# EAGLE library part 750370042 (library Midcom Inc - EAGLE Lib V2-0)
Package Style: ER9.5 Mounting: SMD Pins: 8 pins Bobbin: 070-2008 Best pinouts for production vary per application. Please contact Wurth Electronics Midcom, Inc. for assistance with your custom design. Website: Wurth Electronics Midcom <http://www.we-online.com/midcom> Contact us Wurth Electronics Midcom, Inc. 121 Airport Dr. Watertown, SD 57201 Phone: (605) 886-4385 Fax: (605) 886-4486 E-Mail: midcom@we-online.com
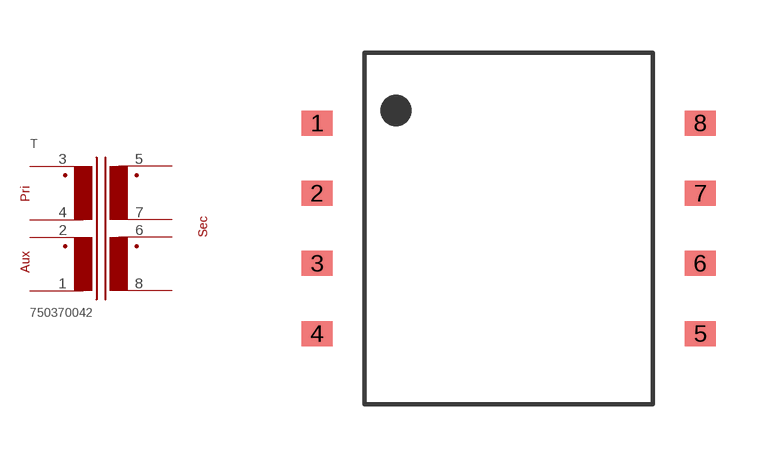
[diagram p267: symbol with the pads of ER9.5_SMD_V_8PIN_(2008); footprint ER9.5_SMD_V_8PIN_(2008)]

Designator prefix T

## 750370042  [ER9.5_SMD_V_8PIN_(2008)]
1  1  pas
2  2  pas
3  3  pas
4  4  pas
5  5  pas
6  6  pas
7  7  pas
8  8  pas

## Footprint ER9.5_SMD_V_8PIN_(2008) (pad centres in mm)
Package Style: ER9.5 Mounting: SMD Pins: 8 Bobbin: 070-2008
smd 0.889 x 0.711: 1 -5.461,2.998; 2 -5.461,0.999; 3 -5.461,-0.999; 4 -5.461,-2.998; 5 5.461,-2.998; 6 5.461,-0.999; 7 5.461,0.999; 8 5.461,2.998